# Altium schematic symbol library ADG759.Schlib: 1 symbol
Pins are listed as number, name and electrical type; pins without a type are passive.

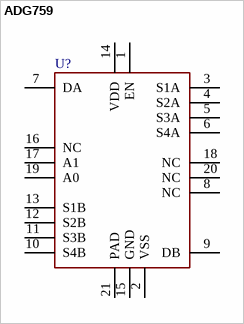
[diagram p0: symbol ADG759]

## ADG759
designator U?
pins: 1 EN, 2 VSS, 3 S1A, 4 S2A, 5 S3A, 6 S4A, 7 DA, 8 NC, 9 DB, 10 S4B, 11 S3B, 12 S2B, 13 S1B, 14 VDD, 15 GND, 16 NC, 17 A1, 18 NC, 19 A0, 20 NC, 21 PAD
1 alternate drawing of the same symbol